# EAGLE library part DM1B-DSF-PEJ (library 180118 Library by matsu)
AKIZUKIDENSHI SD CARD CONNECTOR HIROSE DM1B-DSF-PEJ (REVERSE TYPE) http://akizukidenshi.com/download/ds/hirose/DM1B-DSF-PEJ.pdf (by matsu)
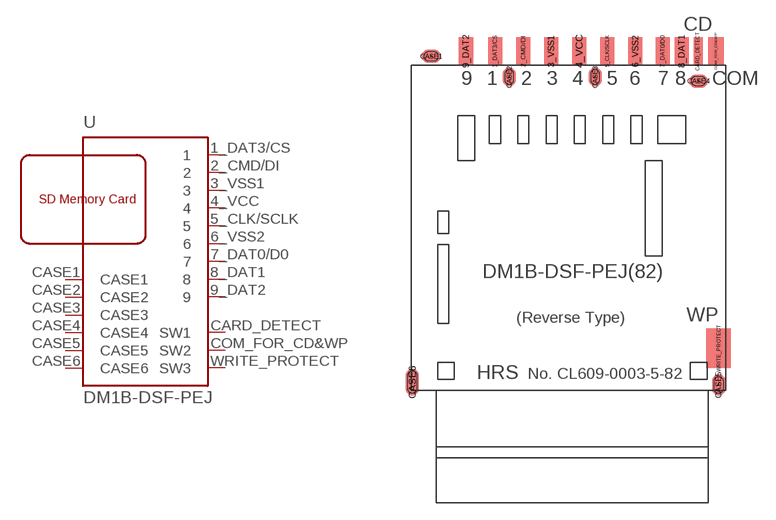
[diagram p18: symbol with the pads of DM1B-DSF-PEJ; footprint DM1B-DSF-PEJ]

Designator prefix -

## DM1B-DSF-PEJ  [DM1B-DSF-PEJ]
1_DAT3/CS  1  pas
2_CMD/DI  2  pas
3_VSS1  3  pas
4_VCC  4  pas
5_CLK/SCLK  5  pas
6_VSS2  6  pas
7_DAT0/D0  7  pas
8_DAT1  8  pas
9_DAT2  9  pas
CARD_DETECT  SW1  pas
CASE1  CASE1
CASE2  CASE2
CASE3  CASE3
CASE4  CASE4
CASE5  CASE5
CASE6  CASE6
COM_FOR_CD&WP  SW2  pas
WRITE_PROTECT  SW3  pas

## Footprint DM1B-DSF-PEJ (pad centres in mm)
For DM1B-DSF-PEJ
smd 1.25 x 2.5: 1_DAT3/CS -6.875,1.25; 2_CMD/DI -4.375,1.25; 3_VSS1 -1.875,1.25; 4_VCC 0.625,1.25; 5_CLK/SCLK 3.125,1.25; 6_VSS2 5.625,1.25; 7_DAT0/D0 8.05,1.25; 8_DAT1 9.75,1.25; 9_DAT2 -9.47,1.25
smd 0.8 x 2.5: CARD_DETECT 11.2,1.25
smd 1.7 x 1.2: CASE1 -12.57,0.8; CASE4 11.23,-1.4
smd 1.2 x 1.7: CASE2 -5.62,-1.05; CASE3 2.03,-1.05
smd 1.2 x 1.9: CASE5 13.03,-28.5
smd 1.2 x 2.4: CASE6 -14.25,-28.25
smd 1.4 x 2.5: COM_FOR_CD&WP 12.8,1.25
smd 2.2 x 3.5: WRITE_PROTECT 13.03,-25.23